# Altium footprint library Pasive.PcbLib: 34 footprints (part 3 of 3)
Each footprint in its own frame and in the unit in brackets; x right, y up, seen from the top. Pads: shape width x height; smd on the part's side, far side on the other; paste and mask are expansions set on the pad; w line width, h text height; cw(c..) or ccw(c..) is an arc to the next point about the centre after c.
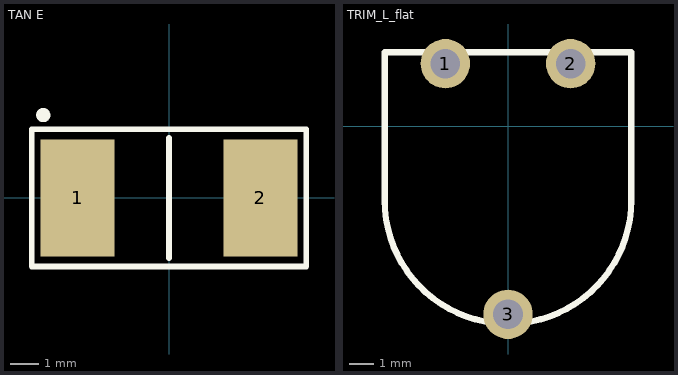
[diagram p2: the footprints below, top view; thin cyan lines are the x and y axes]

## TAN E [mm] "Capacitor, SM Tantalum; Body 7.3 x 6.0 mm (LxW typ)"
height 3.8
pads (2):
  rect 2.6x4.1 smd: 1(-3.2,0) 2(3.2,0)
Top Overlay:
  circle w0.25: c-4.4,2.9 r0.125
  lines w0.2: 0,-2.1 0,2.1 ; -4.8,-2.4 4.8,-2.4 4.8,2.4 -4.8,2.4 -4.8,-2.4
3D body "E.stp": height 4, standoff 0, extent -3.65,-2.15 3.65,2.15

## TRIM_L_flat [mm]
height 3
pads (3):
  round 2 hole 1.2: 1(-2.54,2.54) 2(2.54,2.54) 3(0,-7.62)
Top Overlay:
  lines w0.254: -5,-3 ccw(c0,-3) 5,-3 5,3 -5,3 -5,-3
3D body "POT.STEP": height 6.16, standoff -3.99, extent -5,-7.7 5,2.5